# Altium schematic symbol library HDSP-B09G_new.SchLib: 1 symbol
Pins are listed as number, name and electrical type; pins without a type are passive.

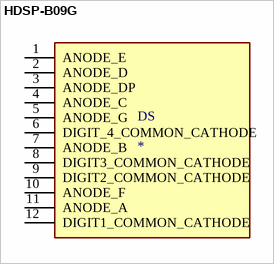
[diagram p0: symbol HDSP-B09G]

## HDSP-B09G
designator DS
Display Modules - LED Character and Numeric Green 7-Segment Clock 4 Character Common Cathode 2.2V 20mA 0.752 H x 2.016 W x 0.315 D _19.10mm x 51.20mm x 8.00mm_ 12-DIP _0.600, 15.24mm_; MF: Broadcom Limited; MP: HDSP-B09G; Package: DIP-12 Broadcom; Value: *; Availability: Unavailable; SnapEDA_Link: https://www.snapeda.com/parts/HDSP-B09G/Broadcom%20Limited/view-part/1797524/?ref=snap; Price: None
footprint AVAGO_HDSP-B09G
footprint AVAGO_HDSP-B09G
pins: 1 ANODE_E, 2 ANODE_D, 3 ANODE_DP, 4 ANODE_C, 5 ANODE_G, 6 DIGIT_4_COMMON_CATHODE, 7 ANODE_B, 8 DIGIT3_COMMON_CATHODE, 9 DIGIT2_COMMON_CATHODE, 10 ANODE_F, 11 ANODE_A, 12 DIGIT1_COMMON_CATHODE